# Altium schematic symbol library Technosoft_Micro4804_MZ_CAT.SchLib: 1 symbol
Pins are listed as number, name and electrical type; pins without a type are passive.

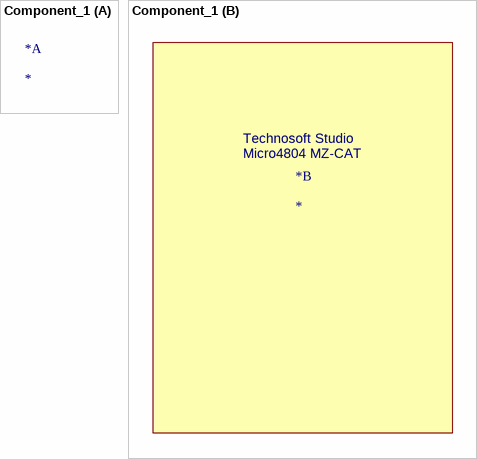
[diagram p0: symbol Component_1]

## Component_1
designator *
part B text: Technosoft Studio; Micro4804 MZ-CAT